# Altium schematic symbol library LED.SchLib: 12 symbols
Pins are listed as number, name and electrical type; pins without a type are passive.

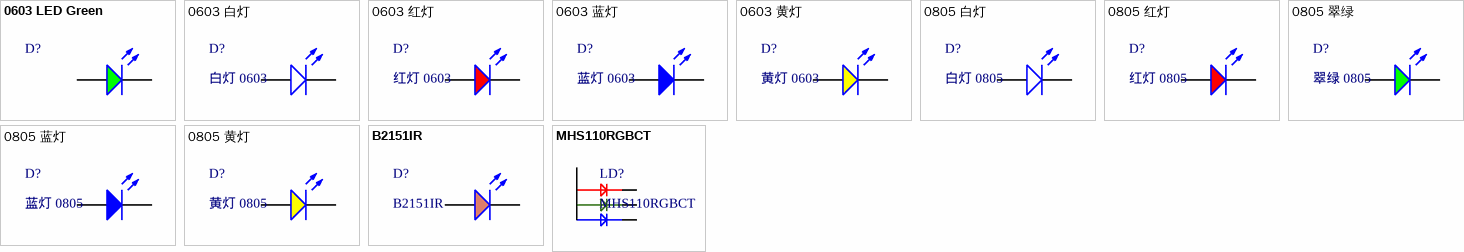
[diagram p0: symbols 0603 LED Green to MHS110RGBCT]

## 0603 LED Green
designator D?  (value not drawn)
Green LED; Package: 0603; Color: Green
footprint 0603_LED_S1
pins: A, K

## 0603 白灯
designator D?, comment 白灯 0603
发光二极管; ComponentLink1Description: 供应商链接; ComponentLink1URL: http://www.szlcsc.com/product/details_2663.html; Package: 0603; Supplier: LC; SuppliersPartNumber: C2290
footprint 0603_LED_S1
pins: A, K

## 0603 红灯
designator D?, comment 红灯 0603
发光二极管; ComponentLink1Description: 供应商链接; ComponentLink1URL: http://www.szlcsc.com/product/details_2659.html; Package: 0603; Supplier: LC; SuppliersPartNumber: C2286
footprint 0603_LED_S1
pins: A, K

## 0603 蓝灯
designator D?, comment 蓝灯 0603
发光二极管; ComponentLink1Description: 供应商链接; ComponentLink1URL: http://www.szlcsc.com/product/details_73150.html; Package: 0603; Supplier: LC; SuppliersPartNumber: C72041
footprint 0603_LED_S1
pins: A, K

## 0603 黄灯
designator D?, comment 黄灯 0603
发光二极管; ComponentLink1Description: 供应商链接; ComponentLink1URL: http://www.szlcsc.com/product/details_73147.html; Package: 0603; Supplier: LC; SuppliersPartNumber: C72038
footprint 0603_LED_S1
pins: A, K

## 0805 白灯
designator D?, comment 白灯 0805
发光二极管; ComponentLink1Description: 供应商链接; ComponentLink1URL: http://www.szlcsc.com/product/details_35468.html; Package: 0805; Supplier: LC; SuppliersPartNumber: C34499
footprint 0805_LED_S1
pins: A, K

## 0805 红灯
designator D?, comment 红灯 0805
发光二极管; ComponentLink1Description: 供应商链接; ComponentLink1URL: http://www.szlcsc.com/product/details_2668.html; Package: 0805; Supplier: LC; SuppliersPartNumber: C2295
footprint 0805_LED_S1
pins: A, K

## 0805 翠绿
designator D?, comment 翠绿 0805
发光二极管; ComponentLink1Description: 供应商链接; ComponentLink1URL: http://www.szlcsc.com/product/details_2670.html; Package: 0805; Supplier: LC; SuppliersPartNumber: C2297
footprint 0805_LED_S1
pins: A, K

## 0805 蓝灯
designator D?, comment 蓝灯 0805
发光二极管; ComponentLink1Description: 供应商链接; ComponentLink1URL: http://www.szlcsc.com/product/details_2666.html; Package: 0805; Supplier: LC; SuppliersPartNumber: C2293
footprint 0805_LED_S1
pins: A, K

## 0805 黄灯
designator D?, comment 黄灯 0805
发光二极管; ComponentLink1Description: 供应商链接; ComponentLink1URL: http://www.szlcsc.com/product/details_2669.html; Package: 0805; Supplier: LC; SuppliersPartNumber: C2296
footprint 0805_LED_S1
pins: A, K

## B2151IR
designator D?
Surface Mount CHIP LEDs; Package: 2-SMD
footprint B2151IR
pins: A, K

## MHS110RGBCT
designator LD?
Side stickers Common anode -40℃~+85℃ RGB 120° SMD,1.5x3mm  Light Emitting Diodes (LED) ROHS; R Max F Voltage: 2.3V; G Max F Voltage: 3.0V; B Max F Voltage: 3.1V; R Min F Voltage: 1.6V; G Min F Voltage: 2.4V; B Min F Voltage: 2.5V; Forward Current: 5mA
footprint MHS110RGBCT
pins: A, B, G, R